# EAGLE library part ARDUINOEVERY (library Arduino Nano Every)
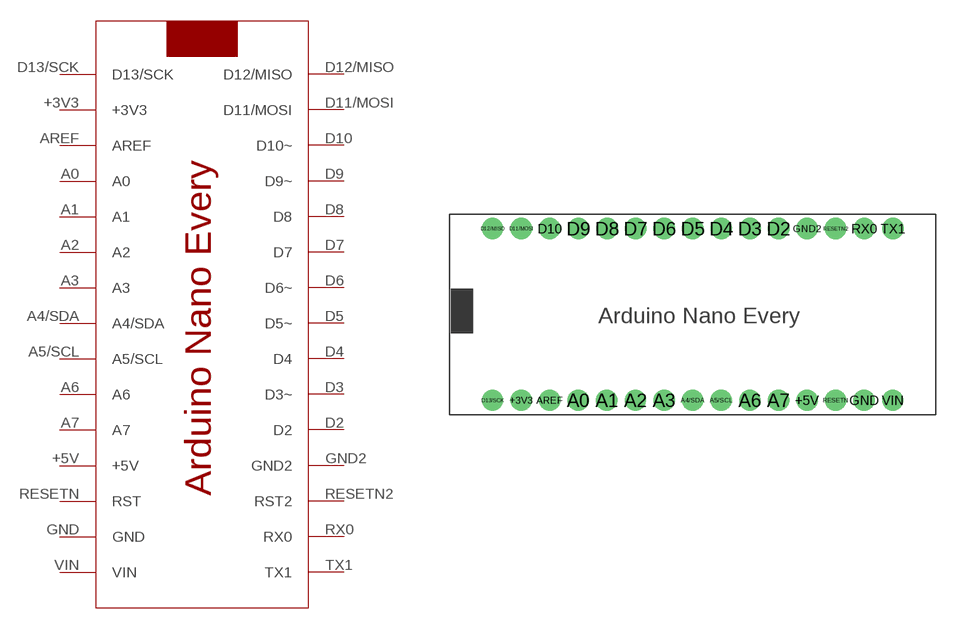
[diagram p0: symbol with the pads of ARDUINONANOEVERY; footprint ARDUINONANOEVERY]

Designator prefix -

## ARDUINOEVERYARDUINONANOEVERY  [ARDUINONANOEVERY]
+3V3  +3V3
+5V  +5V
A0  A0
A1  A1
A2  A2
A3  A3
A4/SDA  A4/SDA
A5/SCL  A5/SCL
A6  A6
A7  A7
AREF  AREF
D2  D2
D3  D3~
D4  D4
D5  D5~
D6  D6~
D7  D7
D8  D8
D9  D9~
D10  D10~
D11/MOSI  D11/MOSI
D12/MISO  D12/MISO
D13/SCK  D13/SCK
GND  GND
GND2  GND2
RESETN  RST
RESETN2  RST2
RX0  RX0
TX1  TX1
VIN  VIN

## Footprint ARDUINONANOEVERY (pad centres in mm)
drill 1 pad 1.9: +3V3 6.35,1.27; +5V 31.75,1.27; A0 11.43,1.27; A1 13.97,1.27; A2 16.51,1.27; A3 19.05,1.27; A4/SDA 21.59,1.27; A5/SCL 24.13,1.27; A6 26.67,1.27; A7 29.21,1.27; AREF 8.89,1.27; D2 29.22,16.51; D3 26.68,16.51; D4 24.14,16.51; D5 21.6,16.51; D6 19.06,16.51; D7 16.52,16.51; D8 13.98,16.51; D9 11.44,16.51; D10 8.9,16.51; D11/MOSI 6.36,16.51; D12/MISO 3.81,16.51; D13/SCK 3.81,1.27; GND 36.83,1.27; GND2 31.76,16.51; RESETN 34.29,1.27; RESETN2 34.3,16.51; RX0 36.84,16.51; TX1 39.38,16.51; VIN 39.37,1.27